# Altium footprint library CMR_PCB_Components.PcbLib: 26 footprints (part 1 of 2)
Each footprint in its own frame and in the unit in brackets; x right, y up, seen from the top. Pads: shape width x height; smd on the part's side, far side on the other; paste and mask are expansions set on the pad; w line width, h text height; cw(c..) or ccw(c..) is an arc to the next point about the centre after c.
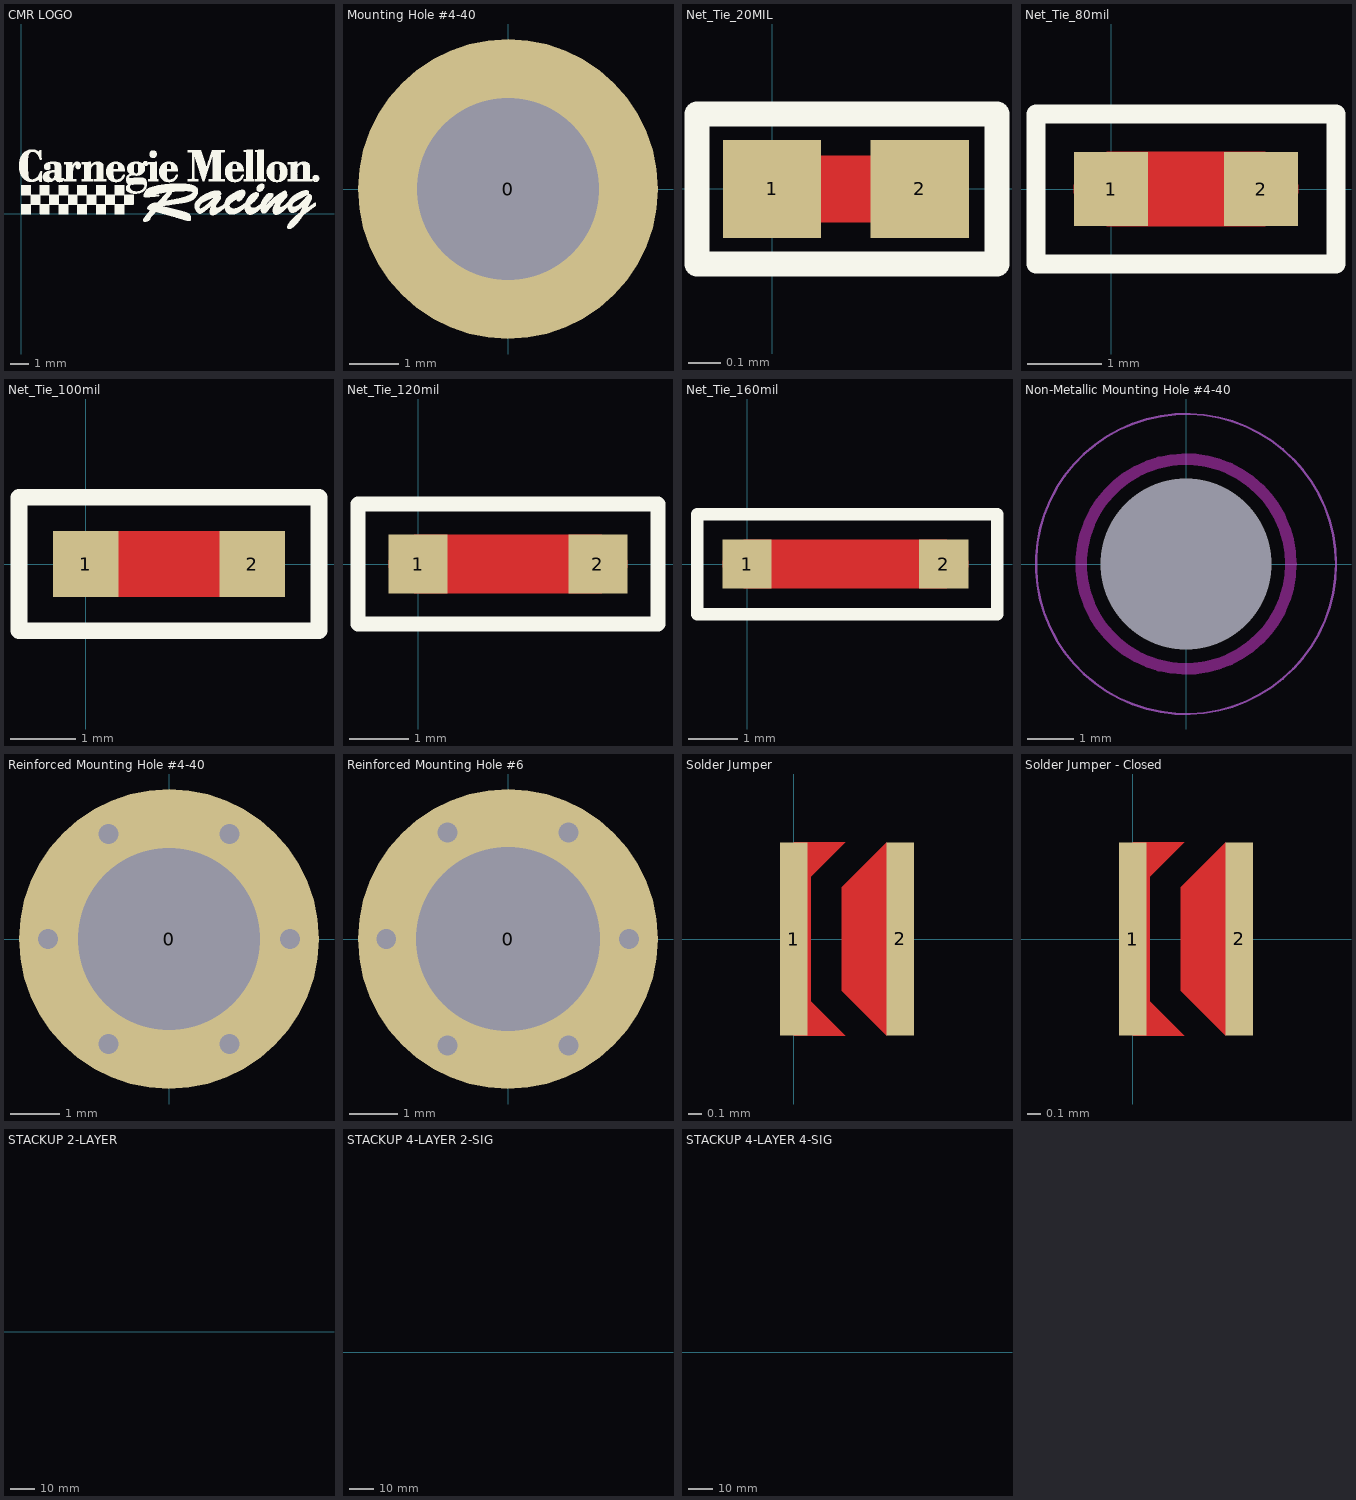
[diagram p0: the footprints below, top view; thin cyan lines are the x and y axes]

## CMR LOGO [mil] "CMR Logo"
Top Overlay:
  drawing of 8158 lines, arcs and shapes, not listed

## FAB NOTES [mil] "Fabrication notes"
Drill Drawing:
  text "1. FABRICATE PCB IN ACCORDANCE WITH IPC-A600 CLASS 2" at 300,1600 h60
  text "NOTES FOR FAB (UNLESS OTHERWISE SPECIFIED):" at 300,1800 h60
  text "2. FINISHED PCB THICKNESS SHALL BE .FinishedPCBThickness" at 300,1400 h60
  text "3. ALL EXPOSED CONDUCTIVE PATTERN AREAS NOT COVERED WITH SOLDER MASK  MASK OR OTHER PLATING SHALL BE FINISHED USING LEAD-FREE HAL SOLDER PLATING" at 300,1000 h60
  text "5. SILKSCREEN SHALL BE WHITE, PERMANENT, ORGANIC, NON-CONDUCTIVE INK. THERE SHALL BE NO INK ON EXPOSED PADS" at 300,400 h60
  text "4.  SOLDERMASK BOTH SIDES USING LIQUID PHOTO-IMAGEABLE MATERIAL (LPI) OVER BARE COPPER" at 300,700 h60
  text "6.  MARKINGS ADDED BY FABRICATOR SHALL ONLY BE RENDERED IN SILKSCREEN INK ON THE SECONDARY SIDE OF THE PCB" at 300,100 h60

## Mounting Hole #4-40 [mm] "Mounting Hole for ANSI #4-40 w/ Flat Washer, Loose Fit"
pads (1):
  round 6.1 hole 3.7: 0(0,0)

## Net_Tie_20MIL [mm]
pads (2):
  rect 0.3x0.3 smd paste+0 mask+0.05: 1(0,0)
  rect 0.3x0.3 smd mask+0.05: 2(0.45,0)
Top Layer:
  lines w0.203: -0.029,0 0.479,0
Top Overlay:
  lines w0.076: -0.229,-0.229 0.686,-0.229 0.686,0.229 -0.229,0.229 -0.229,-0.229

## Net_Tie_80mil [mm]
pads (2):
  rect 1x1 smd: 1(0,0) 2(2.032,0)
Top Layer:
  lines w1.016: 0,0 2.032,0
Top Overlay:
  lines w0.254: -1.016,-1.016 3.048,-1.016 3.048,1.016 -1.016,1.016 -1.016,-1.016

## Net_Tie_100mil [mm]
pads (2):
  rect 1x1 smd: 1(0,0) 2(2.54,0)
Top Layer:
  lines w1: 0,0 2.54,0
Top Overlay:
  lines w0.254: -1.016,-1.016 -1.016,1.016 3.556,1.016 3.556,-1.016 -1.016,-1.016

## Net_Tie_120mil [mm]
pads (2):
  rect 1x1 smd: 1(0,0) 2(3.048,0)
Top Layer:
  lines w1: 0,0 3.048,0
Top Overlay:
  lines w0.254: -1.016,-1.016 -1.016,1.016 4.064,1.016 4.064,-1.016 -1.016,-1.016

## Net_Tie_160mil [mm]
pads (2):
  rect 1x1 smd: 1(0,0) 2(4,0)
Top Layer:
  lines w1: 0,0 4,0
Top Overlay:
  lines w0.254: -1.016,-1.016 5.08,-1.016 5.08,1.016 -1.016,1.016 -1.016,-1.016

## Non-Metallic Mounting Hole #4-40 [mm] "Mounting Hole for ANSI #4-40 w/ Flat Washer, Loose Fit, no annular ring or plating"
pads (1):
  round 0 hole 3.7 unplated: 0(0,0)
Keep-Out Layer:
  circle w0.254: c0,0 r2.273
Mechanical 15:
  circle w0.05: c0,0 r3.25

## Reinforced Mounting Hole #4-40 [mm] "Mounting Hole for ANSI #4-40 w/ Flat Washer, Loose Fit, via in ring"
pads (1):
  round 6.1 hole 3.7: 0(0,0)
via 1.232,-2.134 diameter 0.813 hole 0.406
via -1.232,-2.134 diameter 0.813 hole 0.406
via -2.464,0 diameter 0.813 hole 0.406
via -1.232,2.134 diameter 0.813 hole 0.406
via 1.232,2.134 diameter 0.813 hole 0.406
via 2.464,0 diameter 0.813 hole 0.406

## Reinforced Mounting Hole #6 [mm] "Mounting Hole for ANSI #6 w/ Flat Washer, Loose Fit, via in ring"
pads (1):
  round 6.2 hole 3.81: 0(0,0)
via 1.25,-2.2 diameter 0.813 hole 0.406
via -1.25,-2.2 diameter 0.813 hole 0.406
via -2.514,0 diameter 0.813 hole 0.406
via -1.25,2.2 diameter 0.813 hole 0.406
via 1.25,2.2 diameter 0.813 hole 0.406
via 2.5,0 diameter 0.813 hole 0.406

## Solder Jumper [mm]
pads (2):
  rect 0.2x1.4 smd paste+0: 1(0,0) 2(0.775,0)
Top Layer:
  region: 0.375,-0.7 0,-0.7 0,0.7 0.375,0.7 0.125,0.45 0.125,-0.45
  region: 0.35,0.375 0.675,0.7 0.675,-0.7 0.35,-0.375
Top Solder:
  rectangle: -0.2,-0.8 0.975,0.8

## Solder Jumper - Closed [mm]
pads (2):
  rect 0.2x1.4 smd paste+0: 1(0,0) 2(0.775,0)
Top Layer:
  region: 0.35,0.375 0.675,0.7 0.675,-0.7 0.35,-0.375
  region: 0.375,-0.7 0,-0.7 0,0.7 0.375,0.7 0.125,0.45 0.125,-0.45
Top Paste:
  rectangle: 0.1,-0.7 0.7,0.7
Top Solder:
  rectangle: -0.2,-0.8 0.975,0.8

## STACKUP 2-LAYER [mil] "Two Layer PCB Stackup Note"
Drill Drawing:
  lines w5: 500,70 550,120 ; 500,345 550,395 ; 550,70 600,120 ; 550,345 600,395 ; 600,70 650,120 ; 600,345 650,395 ; 650,70 700,120 ; 650,345 700,395 ; 700,70 750,120 ; 700,345 750,395 ; 750,70 800,120 ; 750,345 800,395 ; 800,70 850,120 ; 800,345 850,395 ; 850,70 900,120 ; 850,345 900,395 ; 900,70 950,120 ; 900,345 950,395 ; 950,70 1000,120 ; 950,345 1000,395 ; 1000,70 1050,120 ; 1000,345 1050,395 ; 1050,70 1100,120 ; 1050,345 1100,395 ; 1100,70 1150,120 ; 1100,345 1150,395 ; 1150,70 1200,120 ; 1150,345 1200,395 ; 1200,70 1250,120 ; 1200,345 1250,395 ; 1250,70 1300,120 ; 1250,345 1300,395 ; 1300,70 1350,120 ; 1300,345 1350,395 ; 1350,70 1400,120 ; 1350,345 1400,395 ; 1400,70 1450,120 ; 1400,345 1450,395 ; 1450,70 1500,120 ; 1450,345 1500,395 ; 1500,70 1550,120 ; 1500,345 1550,395 ; 1550,70 1600,120 ; 1550,345 1600,395 ; 1600,70 1650,120 ; 1600,345 1650,395 ; 1650,70 1700,120 ; 1650,345 1700,395 ; 1700,70 1750,120 ; 1700,345 1750,395 ; 1750,70 1800,120 ; 1750,345 1800,395 ; 1800,70 1850,120 ; 1800,345 1850,395 ; 1850,70 1900,120 ; 1850,345 1900,395 ; 1900,70 1950,120 ; 1900,345 1950,395 ; 1950,70 2000,120 ; 1950,345 2000,395 ; 2000,70 2050,120 ; 2000,345 2050,395 ; 2050,70 2100,120 ; 2050,345 2100,395 ; 2100,70 2150,120 ; 2100,345 2150,395 ; 2150,70 2200,120 ; 2150,345 2200,395 ; 2200,70 2250,120 ; 2200,345 2250,395 ; 2250,70 2300,120 ; 2250,345 2300,395 ; 2300,70 2350,120 ; 2300,345 2350,395 ; 2350,70 2400,120 ; 2350,345 2400,395 ; 2400,70 2450,120 ; 2400,345 2450,395 ; 2450,70 2500,120 ; 2450,345 2500,395 ; 2500,70 2550,120 ; 2500,345 2550,395 ; 2550,70 2600,120 ; 2550,345 2600,395 ; 2600,70 2650,120 ; 2600,345 2650,395 ; 2650,70 2700,120 ; 2650,345 2700,395 ; 2700,70 2750,120 ; 2700,345 2750,395 ; 2750,70 2800,120 ; 2750,345 2800,395 ; 2800,70 2850,120 ; 2800,345 2850,395 ; 2850,70 2900,120 ; 2850,345 2900,395 ; 3100,150 3100,175 5200,175 ; 3100,300 5200,300 ; 3100,450 5200,450 ; 3250,25 3250,550 ; 4200,25 4200,550 ; 400,170 400,295 3000,295 3000,170 400,170 ; 450,70 450,120 2950,120 2950,70 450,70 ; 450,345 450,395 2950,395 2950,345 450,345 ; 3100,25 5200,25 5200,550 3100,550 3100,25
  text "BOTTOM" at 3300,80 h50
  text "2" at 3160,60 h50
  text ".L2_LayerThickness" at 4240,60 h50
  text "7. FINISHED COPPER WEIGHT AND LAYER THICKNESS SHALL BE:" at 300,600 h60
  text "CORE: ADJUST TO FINISHED PCB THICKNESS" at 625,195 h50
  text "TOP" at 3300,340 h50
  text "LAYER NAME" at 3300,450 h50
  text "#" at 3150,450 h50
  text "1" at 3160,340 h50
  text "FINISHED THICKNESS" at 4260,450 h50
  text ".L1_LayerThickness" at 4240,340 h50
  text "SIGNAL" at 40,340 h50
  text "SIGNAL" at 40,70 h50

## STACKUP 4-LAYER 2-SIG [mil] "Four Layer PCB Stackup Note, 2 Signal Layer"
Drill Drawing:
  drawing of 234 lines, arcs and shapes, not listed
  text "SIGNAL" at 140,110 h50
  text "PLANE" at 140,400 h50
  text "PLANE" at 140,670 h50
  text "SIGNAL" at 140,950 h50
  text ".L4_LayerThickness" at 4340,100 h50
  text ".L3_LayerThickness" at 4340,380 h50
  text ".L2_LayerThickness" at 4340,660 h50
  text ".L1_LayerThickness" at 4340,940 h50
  text "FINISHED THICKNESS" at 4360,1050 h50
  text "4" at 3260,100 h50
  text "3" at 3260,380 h50
  text "2" at 3260,660 h50
  text "1" at 3260,940 h50
  text "#" at 3250,1050 h50
  text "LAYER NAME" at 3400,1050 h50
  text "PLANE 1 / GND" at 3400,680 h50
  text "PLANE 2 / POWER" at 3400,380 h50
  text "SIGNAL 2 / BOTTOM" at 3400,100 h50
  text "SIGNAL 1 / TOP" at 3400,940 h50
  text "PREPREG: .PrepregThickness2" at 725,245.98 h50
  text "CORE: .CoreThickness" at 725,525 h50
  text "PREPREG: .PrepregThickness1" at 725,800 h50
  text "7. FINISHED COPPER WEIGHT AND LAYER THICKNESS SHALL BE:" at 400,1200 h60

## STACKUP 4-LAYER 4-SIG [mil] "Four Layer PCB Stackup Note, 4 Signal Layers"
Drill Drawing:
  drawing of 234 lines, arcs and shapes, not listed
  text "SIGNAL" at 140,110 h50
  text "SIGNAL" at 140,400 h50
  text "SIGNAL" at 140,670 h50
  text "SIGNAL" at 140,950 h50
  text ".L4_LayerThickness" at 4340,100 h50
  text ".L3_LayerThickness" at 4340,380 h50
  text ".L2_LayerThickness" at 4340,660 h50
  text ".L1_LayerThickness" at 4340,940 h50
  text "FINISHED THICKNESS" at 4360,1050 h50
  text "4" at 3260,100 h50
  text "3" at 3260,380 h50
  text "2" at 3260,660 h50
  text "1" at 3260,940 h50
  text "#" at 3250,1050 h50
  text "LAYER NAME" at 3400,1050 h50
  text "SIGNAL 2 / GND" at 3400,680 h50
  text "SIGNAL 3 / POWER" at 3400,380 h50
  text "SIGNAL 4 / BOTTOM" at 3400,100 h50
  text "SIGNAL 1 / TOP" at 3400,940 h50
  text "PREPREG: .PrepregThickness2" at 725,245.98 h50
  text "PREPREG: .PrepregThickness1" at 725,800 h50
  text "7. FINISHED COPPER WEIGHT AND LAYER THICKNESS SHALL BE:" at 400,1200 h60
  text "CORE: .CoreThickness" at 725,525 h50